# EAGLE library part PTN78060 (library 0SBLib)
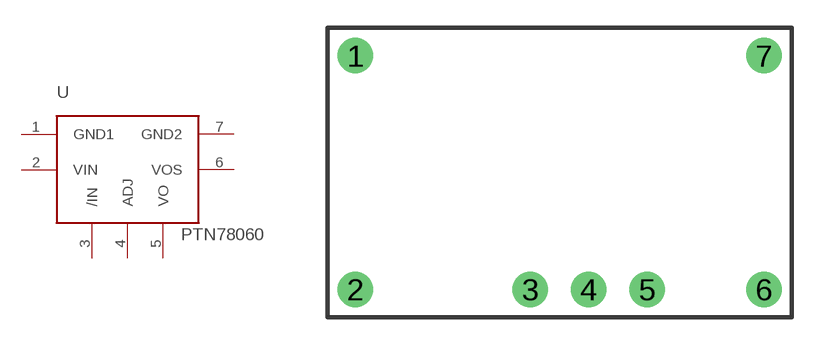
[diagram p26: symbol with the pads of EUW; footprint EUW]

Designator prefix -

## PTN78060  [EUW]
1  GND1
2  VIN
3  /IN
4  ADJ
5  VO
6  VOS
7  GND2

## Footprint EUW (pad centres in mm)
drill 1.1 pad 1.93: 1 0,12.7; 2 0,0; 3 9.52,0; 4 12.7,0; 5 15.88,0; 6 22.23,0; 7 22.23,12.7